# EAGLE library part BBBALEX (library HuskyRobotics17-18)
BeagleBone Black footprint for cape board. NOTE: designed for beaglebone facing down on top of pcb
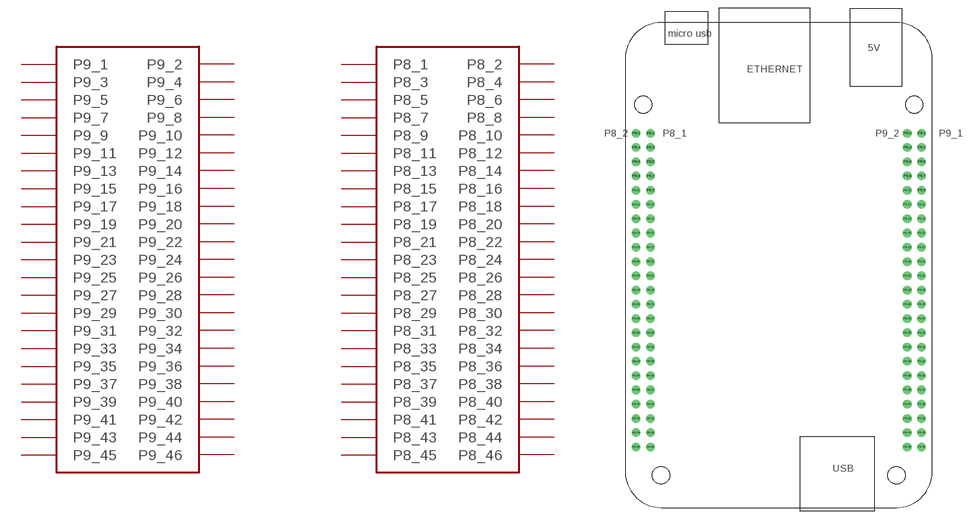
[diagram p8: symbol with the pads of BBBALEX; footprint BBBALEX]

Designator prefix -

## BBBALEX  [BBBALEX]
P8.1  P8_1
P8.2  P8_2
P8.3  P8_3
P8.4  P8_4
P8.5  P8_5
P8.6  P8_6
P8.7  P8_7
P8.8  P8_8
P8.9  P8_9
P8.10  P8_10
P8.11  P8_11
P8.12  P8_12
P8.13  P8_13
P8.14  P8_14
P8.15  P8_15
P8.16  P8_16
P8.17  P8_17
P8.18  P8_18
P8.19  P8_19
P8.20  P8_20
P8.21  P8_21
P8.22  P8_22
P8.23  P8_23
P8.24  P8_24
P8.25  P8_25
P8.26  P8_26
P8.27  P8_27
P8.28  P8_28
P8.29  P8_29
P8.30  P8_30
P8.31  P8_31
P8.32  P8_32
P8.33  P8_33
P8.34  P8_34
P8.35  P8_35
P8.36  P8_36
P8.37  P8_37
P8.38  P8_38
P8.39  P8_39
P8.40  P8_40
P8.41  P8_41
P8.42  P8_42
P8.43  P8_43
P8.44  P8_44
P8.45  P8_45
P8.46  P8_46
P9.1  P9_1
P9.2  P9_2
P9.3  P9_3
P9.4  P9_4
P9.5  P9_5
P9.6  P9_6
P9.7  P9_7
P9.8  P9_8
P9.9  P9_9
P9.10  P9_10
P9.11  P9_11
P9.12  P9_12
P9.13  P9_13
P9.14  P9_14
P9.15  P9_15
P9.16  P9_16
P9.17  P9_17
P9.18  P9_18
P9.19  P9_19
P9.20  P9_20
P9.21  P9_21
P9.22  P9_22
P9.23  P9_23
P9.24  P9_24
P9.25  P9_25
P9.26  P9_26
P9.27  P9_27
P9.28  P9_28
P9.29  P9_29
P9.30  P9_30
P9.31  P9_31
P9.32  P9_32
P9.33  P9_33
P9.34  P9_34
P9.35  P9_35
P9.36  P9_36
P9.37  P9_37
P9.38  P9_38
P9.39  P9_39
P9.40  P9_40
P9.41  P9_41
P9.42  P9_42
P9.43  P9_43
P9.44  P9_44
P9.45  P9_45
P9.46  P9_46

## Footprint BBBALEX (pad centres in mm)
drill 1.016: P8.1 -50.165,-19.685; P8.2 -52.705,-19.685; P8.3 -50.165,-22.225; P8.4 -52.705,-22.225; P8.5 -50.165,-24.765; P8.6 -52.705,-24.765; P8.7 -50.165,-27.305; P8.8 -52.705,-27.305; P8.9 -50.165,-29.845; P8.10 -52.705,-29.845; P8.11 -50.165,-32.385; P8.12 -52.705,-32.385; P8.13 -50.165,-34.925; P8.14 -52.705,-34.925; P8.15 -50.165,-37.465; P8.16 -52.705,-37.465; P8.17 -50.165,-40.005; P8.18 -52.705,-40.005; P8.19 -50.165,-42.545; P8.20 -52.705,-42.545; P8.21 -50.165,-45.085; P8.22 -52.705,-45.085; P8.23 -50.165,-47.625; P8.24 -52.705,-47.625; P8.25 -50.165,-50.165; P8.26 -52.705,-50.165; P8.27 -50.165,-52.705; P8.28 -52.705,-52.705; P8.29 -50.165,-55.245; P8.30 -52.705,-55.245; P8.31 -50.165,-57.785; P8.32 -52.705,-57.785; P8.33 -50.165,-60.325; P8.34 -52.705,-60.325; P8.35 -50.165,-62.865; P8.36 -52.705,-62.865; P8.37 -50.165,-65.405; P8.38 -52.705,-65.405; P8.39 -50.165,-67.945; P8.40 -52.705,-67.945; P8.41 -50.165,-70.485; P8.42 -52.705,-70.485; P8.43 -50.165,-73.025; P8.44 -52.705,-73.025; P8.45 -50.165,-75.565; P8.46 -52.705,-75.565; P9.1 -1.905,-19.685; P9.2 -4.445,-19.685; P9.3 -1.905,-22.225; P9.4 -4.445,-22.225; P9.5 -1.905,-24.765; P9.6 -4.445,-24.765; P9.7 -1.905,-27.305; P9.8 -4.445,-27.305; P9.9 -1.905,-29.845; P9.10 -4.445,-29.845; P9.11 -1.905,-32.385; P9.12 -4.445,-32.385; P9.13 -1.905,-34.925; P9.14 -4.445,-34.925; P9.15 -1.905,-37.465; P9.16 -4.445,-37.465; P9.17 -1.905,-40.005; P9.18 -4.445,-40.005; P9.19 -1.905,-42.545; P9.20 -4.445,-42.545; P9.21 -1.905,-45.085; P9.22 -4.445,-45.085; P9.23 -1.905,-47.625; P9.24 -4.445,-47.625; P9.25 -1.905,-50.165; P9.26 -4.445,-50.165; P9.27 -1.905,-52.705; P9.28 -4.445,-52.705; P9.29 -1.905,-55.245; P9.30 -4.445,-55.245; P9.31 -1.905,-57.785; P9.32 -4.445,-57.785; P9.33 -1.905,-60.325; P9.34 -4.445,-60.325; P9.35 -1.905,-62.865; P9.36 -4.445,-62.865; P9.37 -1.905,-65.405; P9.38 -4.445,-65.405; P9.39 -1.905,-67.945; P9.40 -4.445,-67.945; P9.41 -1.905,-70.485; P9.42 -4.445,-70.485; P9.43 -1.905,-73.025; P9.44 -4.445,-73.025; P9.45 -1.905,-75.565; P9.46 -4.445,-75.565